# Altium footprint library osram-packages.PcbLib: 2 footprints
Each footprint in its own frame and in the unit in brackets; x right, y up, seen from the top. Pads: shape width x height; smd on the part's side, far side on the other; paste and mask are expansions set on the pad; w line width, h text height; cw(c..) or ccw(c..) is an arc to the next point about the centre after c.
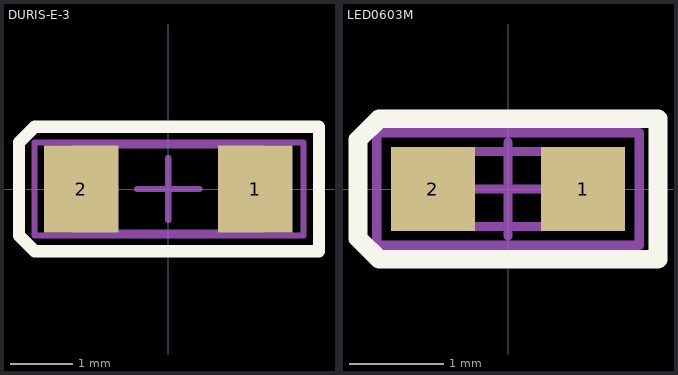
[diagram p0: the footprints below, top view; thin cyan lines are the x and y axes]

## DURIS-E-3 [mm] "3.00mm X 1.40mm"
height 1.3
pads (2):
  rect 1.2x1.4 smd: 1(1.4,0) 2(-1.4,0)
Top Overlay:
  lines w0.2: -2.4,-0.75 -2.4,0.75 -2.15,1 2.425,1 2.425,-1 -2.15,-1 -2.4,-0.75
Mechanical 13:
  lines w0.1: -0.5,0 0.5,0 ; 0,-0.5 0,0.5 ; -1.5,-0.7 -1.5,0.7 1.5,0.7 1.5,-0.7 -1.5,-0.7
Mechanical 15:
  region: -1.25,-0.325 -1.575,0 -1.25,0.325
  lines w0.1: -2.15,-0.75 -2.15,0.75 2.175,0.75 2.175,-0.75 -2.15,-0.75
  text ".Designator" at -0.775,-0.275 h0.5
3D body: height 1.3, standoff 0, extent -1.547,-0.75 1.547,0.75

## LED0603M [mm] "Chip LED 0603 - Medium Density"
height 0.75
pads (2):
  rect 0.9x0.9 smd: 1(0.8,0) 2(-0.8,0)
Top Overlay:
  lines w0.2: -1.6,-0.525 -1.375,-0.75 1.6,-0.75 1.6,0.75 -1.375,0.75 -1.6,0.525 -1.6,-0.525
Mechanical 13:
  lines w0.1: -0.5,0 0.5,0 ; 0,-0.5 0,0.5 ; -0.8,-0.4 0.8,-0.4 0.8,0.4 -0.8,0.4 -0.8,-0.4
Mechanical 15:
  region: -0.875,-0.325 -1.2,0 -0.875,0.325
  lines w0.1: -1.4,-0.6 1.4,-0.6 1.4,0.6 -1.4,0.6 -1.4,-0.6
  text ".Designator" at -0.775,-0.275 h0.5
3D body: height 0.7, standoff 0.02, extent -0.825,-0.363 0.825,0.363